# Altium integrated library RCG1206220RJNEA.IntLib: 1 symbol
Pins are listed as number, name and electrical type; pins without a type are passive.

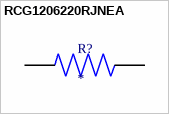
[diagram p0: symbol RCG1206220RJNEA]

## RCG1206220RJNEA
designator R?
220 OHM 5% 200PPM; MP: RCG1206220RJNEA; Package: None; Price: None; Value: *; Availability: Unavailable
footprint RESC3116X60N
pins: 1, 2